# Altium schematic symbol library PluggableConnectors.SchLib: 9 symbols
Pins are listed as number, name and electrical type; pins without a type are passive.

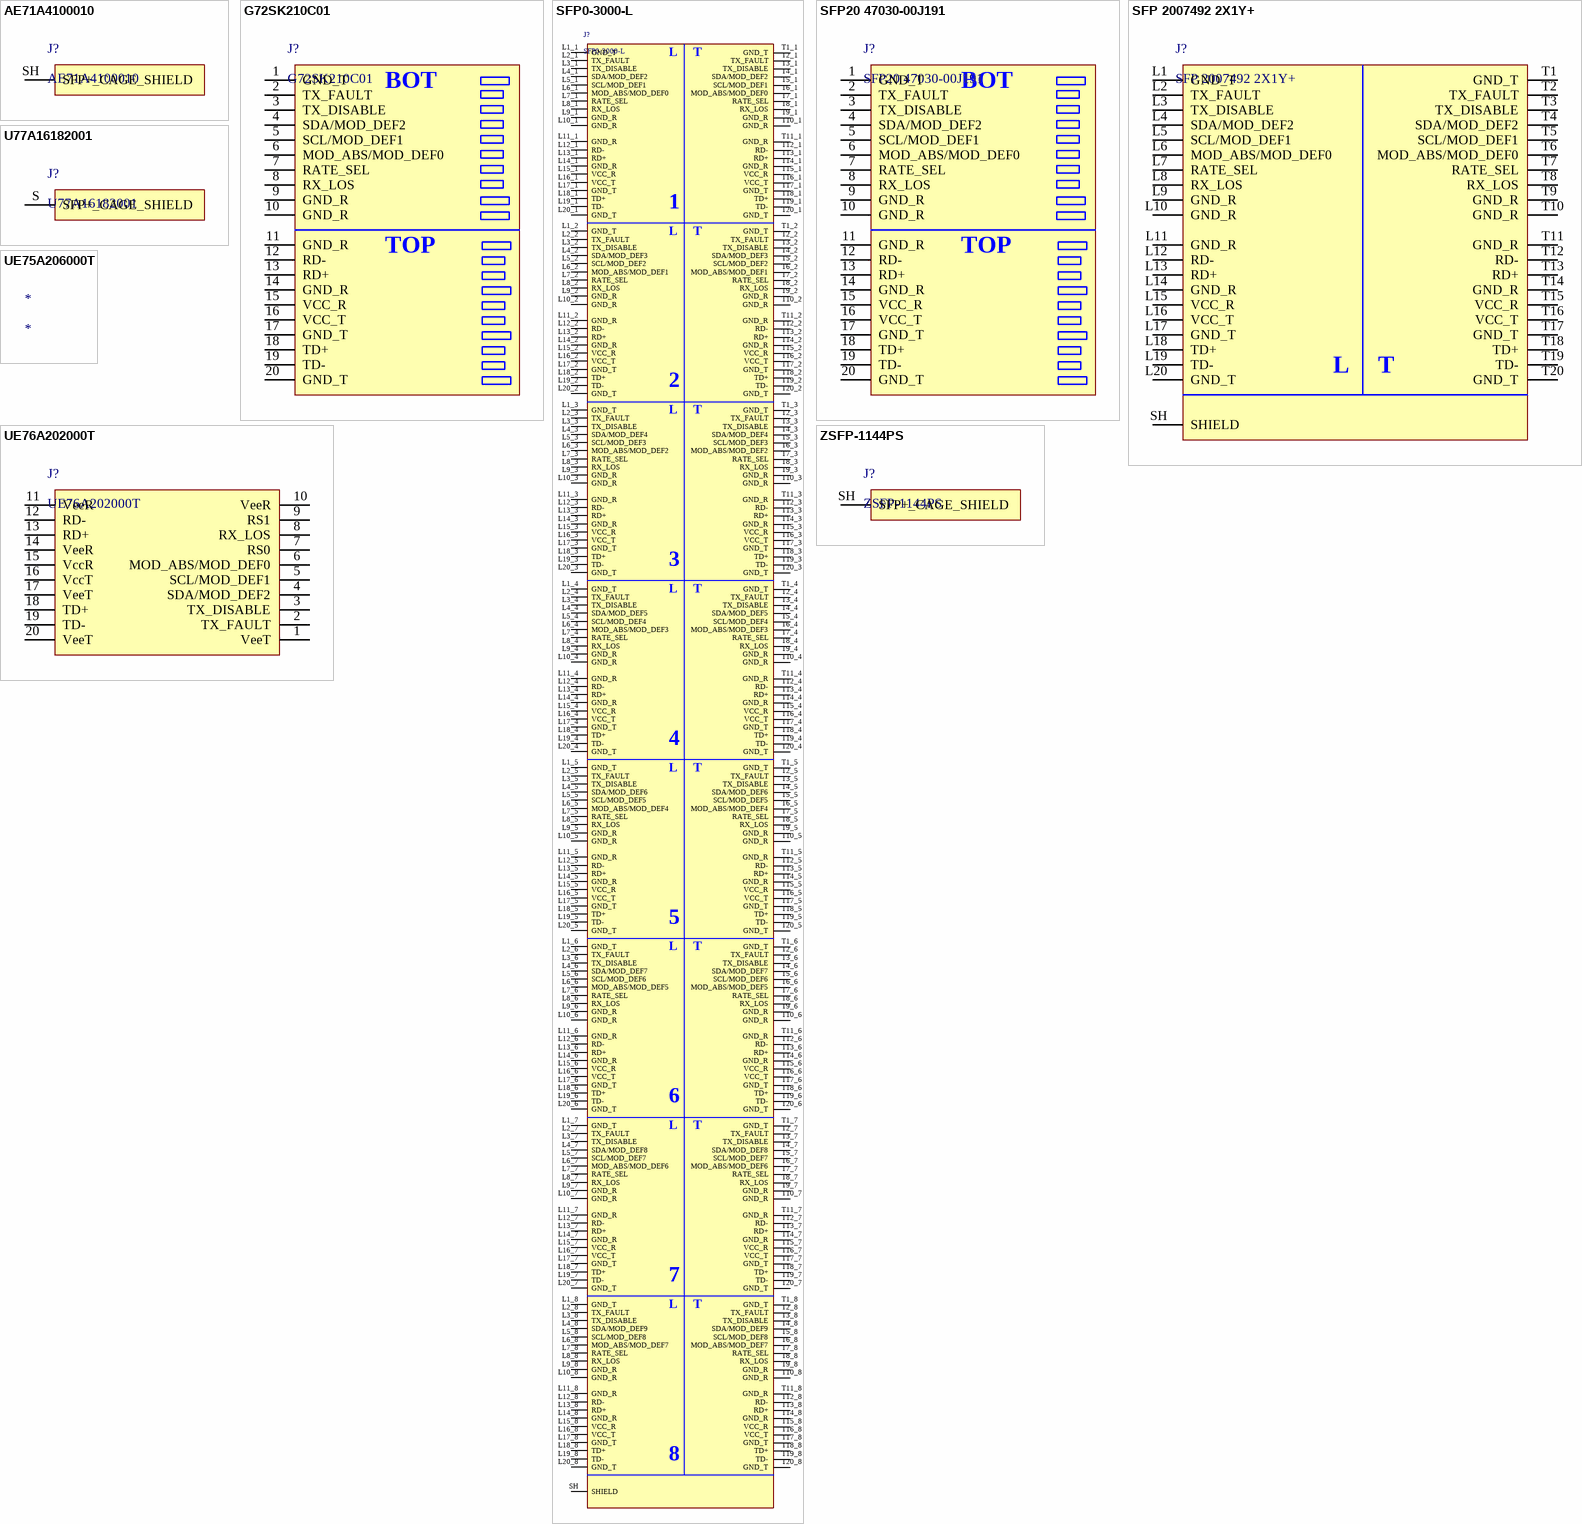
[diagram p0: symbols AE71A4100010 to ZSFP-1144PS]

## AE71A4100010
designator J?
Through Hole Pluggable Connector Accessories RoHS Cage 4X1 SFP+; Manufacturer: CND-tek; Connector Type: SFP; Current Rating: 500mA; Gender: Female; Insulation Resistance: 1GΩ; Number of Ports: 1; Voltage Rating: 3.3V; Supplier 1: LCSC; Supplier 1 Part Number: C5441176; Manufacturer Part Number: AE71A4100010; RoHS: Compliant; Category: Connectors; Stock: 11893; Pricing: 1=2,72, 10=2,307, 25=2,1624, 50=2,059, 100=1,9607, 250=1,83784, 500=1,7501, 1000=1,66661, 2500=1,56234 (USD); Contact Plating: Nickel; Depth: 48.98mm; Features: Shielded; Housing Material: Copper; Lead Free: Lead Free; Length: 16.3mm; Lifecycle Status: Production; Max Operating Temperature: 85°C; Min Operating Temperature: -40°C; Mounting Technology: Through Hole; Orientation: Right Angle; REACH SVHC: Unknown; Termination: Press-Fit; ComponentLink1URL: https://www.lcsc.com/product-detail/C5441176.html?spm=wm.fly.bg.35.xh___wm.ppx.0.2-0.a&lcsc_vid=RgVfV1NeEQBdVFZfE1ANXwcAT1IPVFJTE1RdBlwDTgAxVlNeRFZcUlZfQ1VeVjtW; ComponentLink1Description: LCSC; ComponentLink2URL: https://www.lcsc.com/datasheet/C5441176.pdf?spm=wm.sxq.inf.ggs___wm.fly.bg.35.xh&lcsc_vid=RgVfV1NeEQBdVFZfE1ANXwcAT1IPVFJTE1RdBlwDTgAxVlNeRFZcUlZfQ1VeVjtW; ComponentLink2Description: Datasheet
footprint CND-tek AE71A4100010 (/ 150726 / J.Jaramillo)
pins: SH SFP+_CAGE_SHIELD

## G72SK210C01
designator J?
CONN SFP  RCPT 20POS SLD R/A SMD; Manufacturer: CND-tek; Supplier 1: LCSC; Manufacturer Part Number: G72SK210C01; ComponentLink1Description: LCSC Link; ComponentLink1URL: https://www.lcsc.com/product-detail/C50159076.html?s_z=n_SFP; ComponentLink2Description: Datasheet; ComponentLink2URL: https://www.lcsc.com/datasheet/C50159076.pdf?spm=wm.sxq.inf.ggs&lcsc_vid=RgVfV1NeEQBdVFZfE1ANXwcAT1IPVFJTE1RdBlwDTgAxVlNeQ1BcVVxSRVhYXjtW; Supplier 1 Part Number: C5441185
footprint G72SK210C01 (/ 150726 / J.Jaramillo)
pins: 1 GND_T, 2 TX_FAULT, 3 TX_DISABLE, 4 SDA/MOD_DEF2, 5 SCL/MOD_DEF1, 6 MOD_ABS/MOD_DEF0, 7 RATE_SEL, 8 RX_LOS, 9 GND_R, 10 GND_R, 11 GND_R, 12 RD-, 13 RD+, 14 GND_R, 15 VCC_R, 16 VCC_T, 17 GND_T, 18 TD+, 19 TD-, 20 GND_T
text: BOT; TOP

## SFP0-3000-L
designator J?
SFP Connector, 320 Contact(s), Right Angle, Press Fit Terminal; Manufacturer: Yageo Group-PULSE; Connector Type: Receptacle, SFP; Number of Ports: 16; Number of Positions: 320; Pitch: 1.6mm; Supplier: DigiKey; Supplier Part Number: 553-2261-ND; Manufacturer Part Number: SFP0-3000-L; RoHS: Compliant; Category: Fiber Optic Connectors; Pricing: 36=59,10306 (USD); Contact Plating: Gold; Export Control Classification Number (ECCN) Code: EAR99; Features: Shielded; Harmonized Tariff Schedule (HTS) Code: 8536.69.40.30; Introduction Date: 2010-01-05; Length: 116.1mm; Lifecycle Status: Production; Mounting Technology: Through Hole; Orientation: Right Angle; REACH SVHC: Yes; Termination: Press-Fit; ComponentLink1URL: https://datasheet.octopart.com:443/SFP0-3000-L-Pulse-datasheet-137334322.pdf?src-supplier=IHS; ComponentLink1Description: https://datasheet.octopart.com:443/SFP0-3000-L-Pulse-datasheet-137334322.pdf?src-supplier=IHS; ComponentLink2URL: https://datasheet.octopart.com:443/SFP0-3000-L-Pulse-datasheet-11596673.pdf?src-supplier=Arrow+Electronics; ComponentLink2Description: https://datasheet.octopart.com:443/SFP0-3000-L-Pulse-datasheet-11596673.pdf?src-supplier=Arrow+Electronics; LCSC: C21044676; ComponentLink3Description: LCSC Link; ComponentLink3URL: https://www.lcsc.com/product-detail/C21044676.html?s_z=n_q_SFP0-3000-L&spm=wm.fly.bg.0.xh&lcsc_vid=RldZXlJfEVNXXwYAFFQKVFJeFlYKVlFWQlFfXl1WRQMxVlNeR1ZZVVVfRllXVDsOAxUeFF5JWBYZEEoKFBINSQcJGk4NBhADEA4cHktRT1dADxALGw%3D%3D
footprint PULSE-ELECTRONICS_SFP0-3000-L (CONN SFP RCPT W/CAGE 2X8 320P RA)
pins: L1_1 GND_T, L1_2 GND_T, L1_3 GND_T, L1_4 GND_T, L1_5 GND_T, L1_6 GND_T, L1_7 GND_T, L1_8 GND_T, L2_1 TX_FAULT, L2_2 TX_FAULT, L2_3 TX_FAULT, L2_4 TX_FAULT, L2_5 TX_FAULT, L2_6 TX_FAULT, L2_7 TX_FAULT, L2_8 TX_FAULT, L3_1 TX_DISABLE, L3_2 TX_DISABLE, L3_3 TX_DISABLE, L3_4 TX_DISABLE, L3_5 TX_DISABLE, L3_6 TX_DISABLE, L3_7 TX_DISABLE, L3_8 TX_DISABLE, L4_1 SDA/MOD_DEF2, L4_2 SDA/MOD_DEF3, L4_3 SDA/MOD_DEF4, L4_4 SDA/MOD_DEF5, L4_5 SDA/MOD_DEF6, L4_6 SDA/MOD_DEF7, L4_7 SDA/MOD_DEF8, L4_8 SDA/MOD_DEF9, L5_1 SCL/MOD_DEF1, L5_2 SCL/MOD_DEF2, L5_3 SCL/MOD_DEF3, L5_4 SCL/MOD_DEF4, L5_5 SCL/MOD_DEF5, L5_6 SCL/MOD_DEF6, L5_7 SCL/MOD_DEF7, L5_8 SCL/MOD_DEF8, L6_1 MOD_ABS/MOD_DEF0, L6_2 MOD_ABS/MOD_DEF1, L6_3 MOD_ABS/MOD_DEF2, L6_4 MOD_ABS/MOD_DEF3, L6_5 MOD_ABS/MOD_DEF4, L6_6 MOD_ABS/MOD_DEF5, L6_7 MOD_ABS/MOD_DEF6, L6_8 MOD_ABS/MOD_DEF7, L7_1 RATE_SEL, L7_2 RATE_SEL, L7_3 RATE_SEL, L7_4 RATE_SEL, L7_5 RATE_SEL, L7_6 RATE_SEL, L7_7 RATE_SEL, L7_8 RATE_SEL, L8_1 RX_LOS, L8_2 RX_LOS, L8_3 RX_LOS, L8_4 RX_LOS, L8_5 RX_LOS, L8_6 RX_LOS, L8_7 RX_LOS, L8_8 RX_LOS, L9_1 GND_R, L9_2 GND_R, L9_3 GND_R, L9_4 GND_R, L9_5 GND_R, L9_6 GND_R, L9_7 GND_R, L9_8 GND_R, L10_1 GND_R, L10_2 GND_R, L10_3 GND_R, L10_4 GND_R, L10_5 GND_R, L10_6 GND_R, L10_7 GND_R, L10_8 GND_R, L11_1 GND_R, L11_2 GND_R, L11_3 GND_R, L11_4 GND_R, L11_5 GND_R, L11_6 GND_R, L11_7 GND_R, L11_8 GND_R, L12_1 RD-, L12_2 RD-, L12_3 RD-, L12_4 RD-, L12_5 RD-, L12_6 RD-, L12_7 RD-, L12_8 RD-, L13_1 RD+, L13_2 RD+, L13_3 RD+, L13_4 RD+, L13_5 RD+, L13_6 RD+, L13_7 RD+, L13_8 RD+, L14_1 GND_R, L14_2 GND_R, L14_3 GND_R, L14_4 GND_R, L14_5 GND_R, L14_6 GND_R, L14_7 GND_R, L14_8 GND_R, L15_1 VCC_R, L15_2 VCC_R, L15_3 VCC_R, L15_4 VCC_R, L15_5 VCC_R, L15_6 VCC_R, L15_7 VCC_R, L15_8 VCC_R, L16_1 VCC_T, L16_2 VCC_T, L16_3 VCC_T, L16_4 VCC_T, L16_5 VCC_T, L16_6 VCC_T, L16_7 VCC_T, L16_8 VCC_T, L17_1 GND_T, L17_2 GND_T, L17_3 GND_T, L17_4 GND_T, L17_5 GND_T, L17_6 GND_T, L17_7 GND_T, L17_8 GND_T, L18_1 TD+, L18_2 TD+, L18_3 TD+, L18_4 TD+, L18_5 TD+, L18_6 TD+, L18_7 TD+, L18_8 TD+, L19_1 TD-, L19_2 TD-, L19_3 TD-, L19_4 TD-, L19_5 TD-, L19_6 TD-, L19_7 TD-, L19_8 TD-, L20_1 GND_T, L20_2 GND_T, L20_3 GND_T, L20_4 GND_T, L20_5 GND_T, L20_6 GND_T, L20_7 GND_T, L20_8 GND_T, SH SHIELD, T1_1 GND_T, T1_2 GND_T, T1_3 GND_T, T1_4 GND_T, T1_5 GND_T, T1_6 GND_T, T1_7 GND_T, T1_8 GND_T, T2_1 TX_FAULT, T2_2 TX_FAULT, T2_3 TX_FAULT, T2_4 TX_FAULT, T2_5 TX_FAULT, T2_6 TX_FAULT, T2_7 TX_FAULT, T2_8 TX_FAULT, T3_1 TX_DISABLE, T3_2 TX_DISABLE, T3_3 TX_DISABLE, T3_4 TX_DISABLE, T3_5 TX_DISABLE, T3_6 TX_DISABLE, T3_7 TX_DISABLE, T3_8 TX_DISABLE, T4_1 SDA/MOD_DEF2, T4_2 SDA/MOD_DEF3, T4_3 SDA/MOD_DEF4, T4_4 SDA/MOD_DEF5, T4_5 SDA/MOD_DEF6, T4_6 SDA/MOD_DEF7, T4_7 SDA/MOD_DEF8, T4_8 SDA/MOD_DEF9, T5_1 SCL/MOD_DEF1, T5_2 SCL/MOD_DEF2, T5_3 SCL/MOD_DEF3, T5_4 SCL/MOD_DEF4, T5_5 SCL/MOD_DEF5, T5_6 SCL/MOD_DEF6, T5_7 SCL/MOD_DEF7, T5_8 SCL/MOD_DEF8, T6_1 MOD_ABS/MOD_DEF0, T6_2 MOD_ABS/MOD_DEF1, T6_3 MOD_ABS/MOD_DEF2, T6_4 MOD_ABS/MOD_DEF3, T6_5 MOD_ABS/MOD_DEF4, T6_6 MOD_ABS/MOD_DEF5, T6_7 MOD_ABS/MOD_DEF6, T6_8 MOD_ABS/MOD_DEF7, T7_1 RATE_SEL, T7_2 RATE_SEL, T7_3 RATE_SEL, T7_4 RATE_SEL, T7_5 RATE_SEL, T7_6 RATE_SEL, T7_7 RATE_SEL, T7_8 RATE_SEL, T8_1 RX_LOS, T8_2 RX_LOS, T8_3 RX_LOS, T8_4 RX_LOS, T8_5 RX_LOS, T8_6 RX_LOS, T8_7 RX_LOS, T8_8 RX_LOS, T9_1 GND_R, T9_2 GND_R, T9_3 GND_R, T9_4 GND_R, T9_5 GND_R, T9_6 GND_R, T9_7 GND_R, T9_8 GND_R, T10_1 GND_R, T10_2 GND_R, T10_3 GND_R, T10_4 GND_R, T10_5 GND_R, T10_6 GND_R, T10_7 GND_R, T10_8 GND_R, T11_1 GND_R, T11_2 GND_R, T11_3 GND_R, T11_4 GND_R, T11_5 GND_R, T11_6 GND_R, T11_7 GND_R, T11_8 GND_R, T12_1 RD-, T12_2 RD-, T12_3 RD-, T12_4 RD-, T12_5 RD-, T12_6 RD-, T12_7 RD-, T12_8 RD-, T13_1 RD+, T13_2 RD+, T13_3 RD+, T13_4 RD+, T13_5 RD+, T13_6 RD+, T13_7 RD+, T13_8 RD+, T14_1 GND_R, T14_2 GND_R, T14_3 GND_R, T14_4 GND_R, T14_5 GND_R, T14_6 GND_R, T14_7 GND_R, T14_8 GND_R, T15_1 VCC_R, T15_2 VCC_R, T15_3 VCC_R, T15_4 VCC_R, T15_5 VCC_R, T15_6 VCC_R, T15_7 VCC_R, T15_8 VCC_R, T16_1 VCC_T, T16_2 VCC_T, T16_3 VCC_T, T16_4 VCC_T, T16_5 VCC_T, T16_6 VCC_T, T16_7 VCC_T, T16_8 VCC_T, T17_1 GND_T, T17_2 GND_T, T17_3 GND_T, T17_4 GND_T, T17_5 GND_T, T17_6 GND_T, T17_7 GND_T, T17_8 GND_T, T18_1 TD+, T18_2 TD+, T18_3 TD+, T18_4 TD+, T18_5 TD+, T18_6 TD+, T18_7 TD+, T18_8 TD+, T19_1 TD-, T19_2 TD-, T19_3 TD-, T19_4 TD-, T19_5 TD-, T19_6 TD-, T19_7 TD-, T19_8 TD-, T20_1 GND_T, T20_2 GND_T, T20_3 GND_T, T20_4 GND_T, T20_5 GND_T, T20_6 GND_T, T20_7 GND_T, T20_8 GND_T
text: L; T; 1; 2; 3; 4; 5; 6; 7; 8

## SFP20 47030-00J191
designator J?
CONN SFP  RCPT 20POS SLD R/A SMD; Manufacturer: CND-Tek; LCSC: C50159076; Manufacturer Part Number: SFP20 47030-00J191; ComponentLink1Description: LCSC Link; ComponentLink1URL: https://www.lcsc.com/product-detail/C50159076.html?s_z=n_SFP
footprint AMPHENOL_UE76A202000T
pins: 1 GND_T, 2 TX_FAULT, 3 TX_DISABLE, 4 SDA/MOD_DEF2, 5 SCL/MOD_DEF1, 6 MOD_ABS/MOD_DEF0, 7 RATE_SEL, 8 RX_LOS, 9 GND_R, 10 GND_R, 11 GND_R, 12 RD-, 13 RD+, 14 GND_R, 15 VCC_R, 16 VCC_T, 17 GND_T, 18 TD+, 19 TD-, 20 GND_T
text: BOT; TOP

## SFP 2007492 2X1Y+
designator J?
SFP+ 2X1 CAGE+CONNECTOR; Manufacturer: CND-tek; Manufacturer Part Number: SFP 2007492 2X1Y+; LCSC: C42931396
footprint CND-Tek_SFP 2007492 2X1Y+
pins: L1 GND_T, L2 TX_FAULT, L3 TX_DISABLE, L4 SDA/MOD_DEF2, L5 SCL/MOD_DEF1, L6 MOD_ABS/MOD_DEF0, L7 RATE_SEL, L8 RX_LOS, L9 GND_R, L10 GND_R, L11 GND_R, L12 RD-, L13 RD+, L14 GND_R, L15 VCC_R, L16 VCC_T, L17 GND_T, L18 TD+, L19 TD-, L20 GND_T, SH SHIELD, T1 GND_T, T2 TX_FAULT, T3 TX_DISABLE, T4 SDA/MOD_DEF2, T5 SCL/MOD_DEF1, T6 MOD_ABS/MOD_DEF0, T7 RATE_SEL, T8 RX_LOS, T9 GND_R, T10 GND_R, T11 GND_R, T12 RD-, T13 RD+, T14 GND_R, T15 VCC_R, T16 VCC_T, T17 GND_T, T18 TD+, T19 TD-, T20 GND_T
text: L; T

## U77A16182001
designator J?
Connector Accessories SFP Cage Right Angle Copper Alloy Nickel Tray; Manufacturer: Amphenol Communications Solutions; Current Rating: 500mA; Gender: Female; Insulation Resistance: 1GΩ; Number of Ports: 1; Voltage Rating: 3.3V; Supplier: DigiKey; Supplier Part Number: 664-U77A16182001-ND; Manufacturer Part Number: U77A16182001; RoHS: Compliant; Category: Connectors; Stock: 11893; Pricing: 1=2,72, 10=2,307, 25=2,1624, 50=2,059, 100=1,9607, 250=1,83784, 500=1,7501, 1000=1,66661, 2500=1,56234 (USD); Connector Type: SFP; Contact Plating: Nickel; Depth: 48.98mm; Features: Shielded; Housing Material: Copper; Lead Free: Lead Free; Length: 16.3mm; Lifecycle Status: Production; Max Operating Temperature: 85°C; Min Operating Temperature: -40°C; Mounting Technology: Through Hole; Orientation: Right Angle; REACH SVHC: Unknown; Termination: Press-Fit; ComponentLink1URL: https://datasheet.octopart.com:443/U77A16182001-Amphenol-Communications-Solutions-datasheet-116638668.pdf?src-supplier=Electro+Sonic; ComponentLink1Description: https://datasheet.octopart.com:443/U77A16182001-Amphenol-Communications-Solutions-datasheet-116638668.pdf?src-supplier=Electro+Sonic; ComponentLink2URL: https://datasheet.octopart.com:443/U77A16182001-Amphenol-Communications-Solutions-datasheet-8501042.pdf?src-supplier=Farnell; ComponentLink2Description: https://datasheet.octopart.com:443/U77A16182001-Amphenol-Communications-Solutions-datasheet-8501042.pdf?src-supplier=Farnell
footprint AMPHENOL_U77A16182001
pins: S SFP+_CAGE_SHIELD

## UE75A206000T
designator *
SFP Connector, 20 Contact(s), Female, Right Angle, Surface Mount Terminal, Locking, Receptacle; Manufacturer: Amphenol Communications Solutions; Manufacturer Part Number: UE75A206000T; Connector Type: Receptacle, SFP; Contact Resistance: 2mΩ; Current Rating: 500mA; Dielectric Material: Liquid Crystal Polymer; Number of Contacts: 20; Number of Ports: 1; Pitch: 800µm; Plating Thickness: 381nm; Row Spacing: 8.2mm; Supplier: DigiKey; Supplier Part Number: 664-UE75A206000TCT-ND; RoHS: Compliant; Category: Rectangular Connectors; Stock: 22372; Pricing: 1=1,14, 10=0,968, 25=0,9076, 50=0,8642, 100=0,8229, 250=0,77132 (USD); Contact Gender: Female; Contact Material: Bronze; Contact Plating: Gold; Depth: 8.94mm; Flammability Rating: UL94 V-0; Housing Material: Polymer; Lead Free: Lead Free; Length: 11mm; Lifecycle Status: Production; Max Operating Temperature: 85°C; Min Operating Temperature: -40°C; Mounting Technology: Surface Mount; Pins: 20; Number of Positions: 20; Number of Positions Loaded: 20; Number of Rows: 2; Orientation: Right Angle; Radiation Hardening: No; REACH SVHC: Yes; Terminal Pitch: 800µm; Termination: Solder; ComponentLink1URL: https://datasheet.octopart.com:443/UE75A206000T-Amphenol-Communications-Solutions-datasheet-100449209.pdf?src-supplier=IHS; ComponentLink1Description: https://datasheet.octopart.com:443/UE75A206000T-Amphenol-Communications-Solutions-datasheet-100449209.pdf?src-supplier=IHS; ComponentLink2URL: https://datasheet.octopart.com:443/UE75A206000T-Amphenol-Communications-Solutions-datasheet-41563053.pdf?src-supplier=Electro+Sonic; ComponentLink2Description: https://datasheet.octopart.com:443/UE75A206000T-Amphenol-Communications-Solutions-datasheet-41563053.pdf?src-supplier=Electro+Sonic; ComponentLink3URL: https://datasheet.octopart.com:443/UE75-A20-6000T-Amphenol-datasheet-534375.pdf?src-supplier=Farnell; ComponentLink3Description: https://datasheet.octopart.com:443/UE75-A20-6000T-Amphenol-datasheet-534375.pdf?src-supplier=Farnell; ComponentLink4URL: https://datasheet.octopart.com:443/UE75A206000T-Amphenol-datasheet-62047969.pdf?src-supplier=Future+Electronics; ComponentLink4Description: https://datasheet.octopart.com:443/UE75A206000T-Amphenol-datasheet-62047969.pdf?src-supplier=Future+Electronics; ComponentLink5URL: https://datasheet.octopart.com:443/UE75-A20-6000T-Amphenol-datasheet-27092017.pdf?src-supplier=Future+Electronics; ComponentLink5Description: https://datasheet.octopart.com:443/UE75-A20-6000T-Amphenol-datasheet-27092017.pdf?src-supplier=Future+Electronics; ComponentLink6URL: https://datasheet.octopart.com:443/UE75A206000T-Amphenol-datasheet-14873963.pdf?src-supplier=Factory+Futures; ComponentLink6Description: https://datasheet.octopart.com:443/UE75A206000T-Amphenol-datasheet-14873963.pdf?src-supplier=Factory+Futures

## UE76A202000T
designator J?
SFP+ Connector, 20 Contact(s), Female, Right Angle, Surface Mount Terminal, Locking, Receptacle; Manufacturer: Amphenol Communications Solutions; Connector Type: Receptacle, SFP; Current Rating: 500mA; Dielectric Material: Liquid Crystal Polymer; Insulation Resistance: 1GΩ; Number of Ports: 1; Number of Positions: 20; Plating Thickness: 762nm; Row Spacing: 7.72mm; Supplier: DigiKey; Supplier Part Number: 664-UE76A202000TCT-ND; Manufacturer Part Number: UE76A202000T; RoHS: Compliant; Category: Connectors; Stock: 8968; Pricing: 1=1,38, 10=1,174, 25=1,1, 50=1,0474, 100=0,9972, 250=0,93476 (USD); Contact Gender: Female; Contact Plating: Gold; Lead Free: Lead Free; Lifecycle Status: Production; Max Operating Temperature: 85°C; Min Operating Temperature: -40°C; Mounting Technology: Surface Mount; Pins: 20; Number of Rows: 2; Packaging: Tape & Reel (TR); REACH SVHC: Yes; Terminal Pitch: 800µm; Termination: Solder; ComponentLink1URL: https://datasheet.octopart.com:443/UE76A202000T-Amphenol-Communications-Solutions-datasheet-11892589.pdf?src-supplier=Electro+Sonic; ComponentLink1Description: https://datasheet.octopart.com:443/UE76A202000T-Amphenol-Communications-Solutions-datasheet-11892589.pdf?src-supplier=Electro+Sonic
footprint AMPHENOL_UE76A202000T
pins: 1 VeeT, 2 TX_FAULT, 3 TX_DISABLE, 4 SDA/MOD_DEF2, 5 SCL/MOD_DEF1, 6 MOD_ABS/MOD_DEF0, 7 RS0, 8 RX_LOS, 9 RS1, 10 VeeR, 11 VeeR, 12 RD-, 13 RD+, 14 VeeR, 15 VccR, 16 VccT, 17 VeeT, 18 TD+, 19 TD-, 20 VeeT

## ZSFP-1144PS
designator J?
Through Hole Pluggable Connector Accessories RoHS Cage 4X1 SFP+ with heatsink; Manufacturer: YUEQING ZHUSUN ELECTRONICS CO.,LTD; Connector Type: SFP; Current Rating: 500mA; Gender: Female; Insulation Resistance: 1GΩ; Number of Ports: 1; Voltage Rating: 3.3V; Supplier 1: YUEQING ZHUSUN ELECTRONICS CO.,LTD; Supplier 1 Part Number: ZSFP-1144PS; Manufacturer Part Number: ZSFP-1144PS; RoHS: Compliant; Category: Connectors; Stock: 11893; Pricing: 1=2,72, 10=2,307, 25=2,1624, 50=2,059, 100=1,9607, 250=1,83784, 500=1,7501, 1000=1,66661, 2500=1,56234 (USD); Contact Plating: Nickel; Depth: 48.98mm; Features: Shielded; Housing Material: Copper; Lead Free: Lead Free; Length: 16.3mm; Lifecycle Status: Production; Max Operating Temperature: 85°C; Min Operating Temperature: -40°C; Mounting Technology: Through Hole; Orientation: Right Angle; REACH SVHC: Unknown; Termination: Press-Fit; ComponentLink1Description: Alibaba; ComponentLink2URL: https://drive.google.com/file/d/1G4c_kgUeANJildZa-EAN9uSJsD43zU2J/view?usp=drive_link; ComponentLink2Description: Datasheet
footprint ZSFP-1144PS (/ 180826 / J.Jaramillo)
pins: SH SFP+_CAGE_SHIELD